# EAGLE library part L9110 (library mille-feuille)
Low quiescent current; Wide supply voltage range: 2.5V-12V; 800mA continuous current output capability per channel
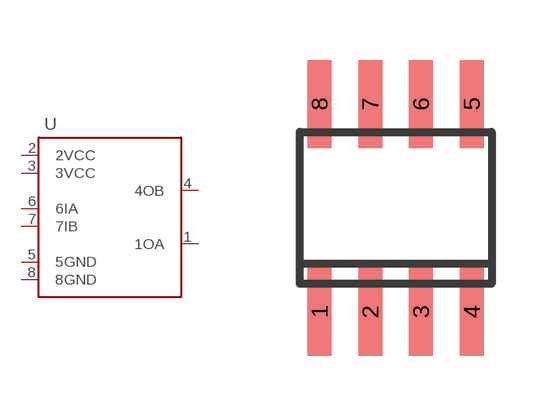
[diagram p52: symbol with the pads of SO-8; footprint SO-8]

Designator prefix U

## L9110  [SO-8]
1  1OA
2  2VCC
3  3VCC
4  4OB
5  5GND
6  6IA
7  7IB
8  8GND

## Footprint SO-8 (pad centres in mm)
smd 0.6 x 2.2: 1 -1.905,-2.6; 2 -0.635,-2.6; 3 0.635,-2.6; 4 1.905,-2.6; 5 1.905,2.6; 6 0.635,2.6; 7 -0.635,2.6; 8 -1.905,2.6